# EAGLE library part TXB0108 (library biomimetic)
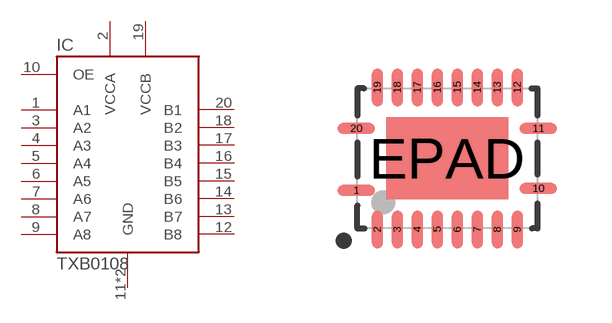
[diagram p21: symbol with the pads of R-PVQFN-N20; footprint R-PVQFN-N20]

Designator prefix IC

## TXB0108RGY  [R-PVQFN-N20]
1  A1
2  VCCA
3  A2
4  A3
5  A4
6  A5
7  A6
8  A7
9  A8
10  OE
11  GND
12  B8
13  B7
14  B6
15  B5
16  B4
17  B3
18  B2
19  VCCB
20  B1
EPAD  GND

## Footprint R-PVQFN-N20 (pad centres in mm)
PLASTIC QUAD FLATPACK NO LEAD JEDEC MO-241, RGY Type Source: http://www.ti.com/lit/ml/mpqf116g/mpqf116g.pdf
smd 0.95 x 0.28: 1 -2.275,-0.8; 10 2.275,-0.75; 11 2.275,0.75; 20 -2.275,0.75
smd 0.28 x 0.95: 2 -1.75,-1.775; 3 -1.25,-1.775; 4 -0.75,-1.775; 5 -0.25,-1.775; 6 0.25,-1.775; 7 0.75,-1.775; 8 1.25,-1.775; 9 1.75,-1.775; 12 1.75,1.775; 13 1.25,1.775; 14 0.75,1.775; 15 0.25,1.775; 16 -0.25,1.775; 17 -0.75,1.775; 18 -1.25,1.775; 19 -1.75,1.775
smd 3.05 x 2.05: EPAD 0,0